# EAGLE library part MIC4682 (library Power > Switching Controllers)
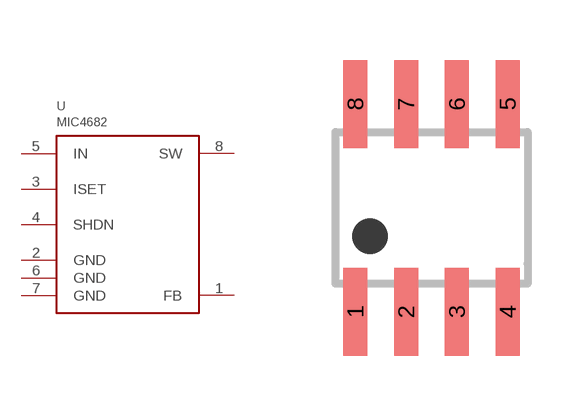
[diagram p2: symbol with the pads of SOIC8; footprint SOIC8]

Designator prefix U

## MIC4682  [SOIC8]
1  FB
2  GND
3  ISET
4  SHDN
5  IN
6  GND
7  GND
8  SW

## Footprint SOIC8 (pad centres in mm)
Small Outline IC
smd 0.6 x 2.2: 1 -1.905,-2.6; 2 -0.635,-2.6; 3 0.635,-2.6; 4 1.905,-2.6; 5 1.905,2.6; 6 0.635,2.6; 7 -0.635,2.6; 8 -1.905,2.6